# Altium footprint library SOIC16 - 3.9mm body width.PcbLib: 1 footprints
Each footprint in its own frame and in the unit in brackets; x right, y up, seen from the top. Pads: shape width x height; smd on the part's side, far side on the other; paste and mask are expansions set on the pad; w line width, h text height; cw(c..) or ccw(c..) is an arc to the next point about the centre after c.
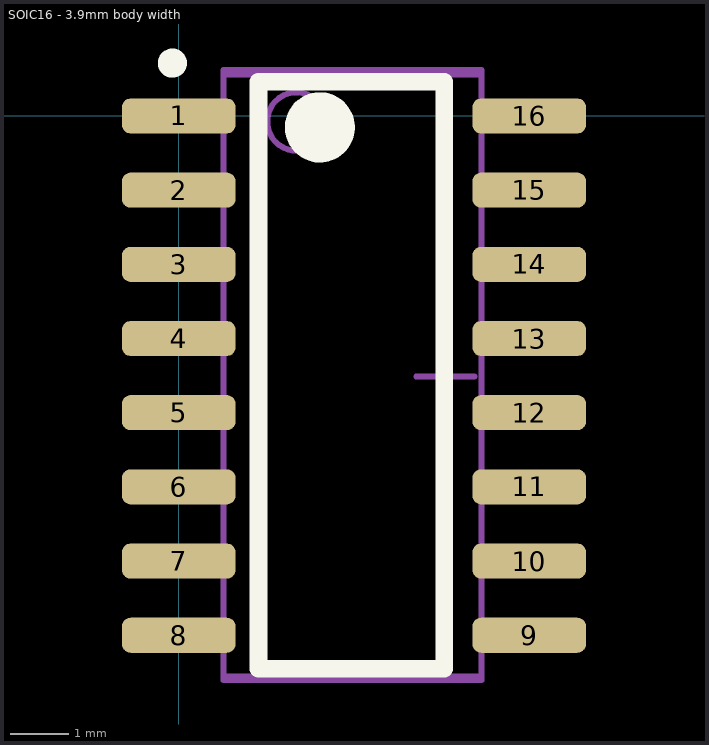
[diagram p0: the footprint, top view; thin cyan lines are the x and y axes]

## SOIC16 - 3.9mm body width [mm] "SO16: plastic small outline package; 16 leads; body width 3.9 mm"
pads (16):
  rrect50% 1.95x0.6 smd: 1(0,0) 2(0,-1.27) 3(0,-2.54) 4(0,-3.81) 5(0,-5.08) 6(0,-6.35) 7(0,-7.62) 8(0,-8.89) 9(6,-8.89) 10(6,-7.62) 11(6,-6.35) 12(6,-5.08) 13(6,-3.81) 14(6,-2.54) 15(6,-1.27) 16(6,0)
Top Overlay:
  circle w0.25: c-0.11,0.905 r0.125
  circle w0.6: c2.415,-0.195 r0.3
  lines w0.3: 1.365,-9.46 1.365,0.59 4.547,0.59 4.547,-9.46 1.365,-9.46
Mechanical 13:
  circle w0.1: c2.015,-0.095 r0.5
  lines w0.1: 0.765,-9.595 0.765,0.705 5.182,0.705 5.182,-9.595 0.765,-9.595
Mechanical 15:
  lines w0.1: 4.065,-4.46 5.065,-4.46 ; 4.515,-4.945 4.515,-3.945 ; 0.765,-9.66 0.765,0.79 5.182,0.79 5.182,-9.66 0.765,-9.66
3D body "User Library-so16.STEP": height 1.7, standoff 0, extent -0.003,-9.545 5.997,0.655